# Altium schematic symbol library D6R90F2LFS.SchLib: 2 symbols
Pins are listed as number, name and electrical type; pins without a type are passive.

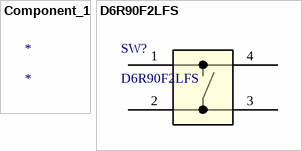
[diagram p0: symbols Component_1 to D6R90F2LFS]

## Component_1
designator *

## D6R90F2LFS
designator SW?
No Description Available; Mfr_Name: C&K Components; Type: DEV; Copyright: Copyright (C) 2024 Ultra Librarian. All rights reserved.; Manufacturer_Part_Number: D6R90F2LFS; RefDes: RefDes
footprint D6R90_CNK
pins: 1, 2, 3, 4